# EAGLE library part ADP1614 (library Custom_old)
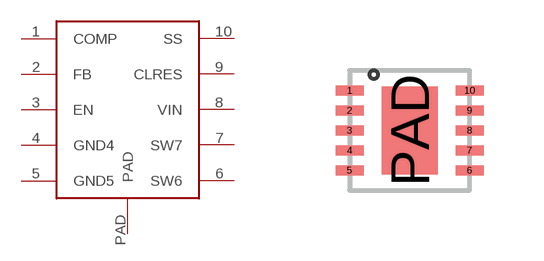
[diagram p5: symbol with the pads of DFN-10-3X3; footprint DFN-10-3X3]

Designator prefix -

## ADP1614  [DFN-10-3X3]
1  COMP
2  FB
3  EN
4  GND4
5  GND5
6  SW6
7  SW7
8  VIN
9  CLRES
10  SS
PAD  PAD

## Footprint DFN-10-3X3 (pad centres in mm)
smd 0.7 x 0.25: 1 -1.5,1; 2 -1.5,0.5; 3 -1.5,0; 4 -1.5,-0.5; 5 -1.5,-1; 6 1.5,-1; 7 1.5,-0.5; 8 1.5,0; 9 1.5,0.5; 10 1.5,1
smd 1.4 x 2.2: PAD 0,0